# Altium schematic symbol library TranFet.SchLib: 15 symbols
Pins are listed as number, name and electrical type; pins without a type are passive.

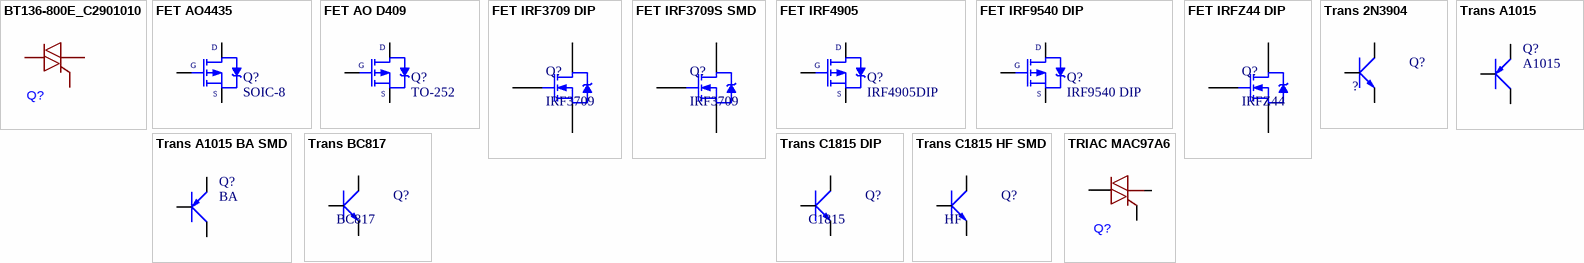
[diagram p0: symbols BT136-800E_C2901010 to TRIAC MAC97A6]

## BT136-800E_C2901010
designator Q?  (value not drawn)
footprint TO-252-3_L6.6-W6.1-P4.57-LS9.9-BR-CW
pins: 1 T1, 2 T2, 3 G

## FET AO4435
designator Q?, comment SOIC-8
P-Channel MOSFET 30V 8A; Note: Pin 2 is electrically connected to pin 4.; Published: 8-Jun-2000; LatestRevisionDate: 17-Jul-2002; LatestRevisionNote: Re-released for DXP Platform.; DatasheetVersion: PD-9.421C; PackageVersion: Feb-1997; PackageReference: TO-220AB; Publisher: Altium Limited; PackageDescription: TO, Thru-Hole, Vertical, Heatsink Mounted; 3 In-Line Leads; Pitch 2.54 mm; ComponentLink1Description: Manufacturer Link; ComponentLink1URL: http://www.irf.com/; ComponentLink2Description: Datasheet; ComponentLink2URL: http://www.irf.com/product-info/datasheets/data/irf9540.pdf
footprint AO4435 (SOIC)
pins: D, G, S

## FET AO D409
designator Q?, comment TO-252
P-Channel Power MOSFET; Note: Pin 2 is electrically connected to pin 4.; Published: 8-Jun-2000; LatestRevisionDate: 17-Jul-2002; LatestRevisionNote: Re-released for DXP Platform.; DatasheetVersion: PD-9.421C; PackageVersion: Feb-1997; PackageReference: TO-220AB; Publisher: Altium Limited; PackageDescription: TO, Thru-Hole, Vertical, Heatsink Mounted; 3 In-Line Leads; Pitch 2.54 mm; ComponentLink1Description: Manufacturer Link; ComponentLink1URL: http://www.irf.com/; ComponentLink2Description: Datasheet; ComponentLink2URL: http://www.irf.com/product-info/datasheets/data/irf9540.pdf
footprint TO-252-3_L6.6-W6.1-P4.57-LS9.9-BR-CW
pins: 1 G, 2 D, 3 S

## FET IRF3709 DIP
designator Q?, comment IRF3709
TO-200
footprint TO220 (TO-220)
pins: 1 G, 2 D, 3 S

## FET IRF3709S SMD
designator Q?, comment IRF3709
D2PAK
footprint D2PAK
pins: 1 G, 2 D, 3 S

## FET IRF4905
designator Q?, comment IRF4905DIP
TO-220AB P-Channel Mosfet; Note: Pin 2 is electrically connected to pin 4.; Published: 8-Jun-2000; LatestRevisionDate: 17-Jul-2002; LatestRevisionNote: Re-released for DXP Platform.; DatasheetVersion: PD-9.421C; PackageVersion: Feb-1997; PackageReference: TO-220AB; Publisher: Altium Limited; PackageDescription: TO, Thru-Hole, Vertical, Heatsink Mounted; 3 In-Line Leads; Pitch 2.54 mm; ComponentLink1Description: Manufacturer Link; ComponentLink1URL: http://www.irf.com/; ComponentLink2Description: Datasheet; ComponentLink2URL: http://www.irf.com/product-info/datasheets/data/irf9540.pdf
footprint TO220 (TO-220)
pins: 1 G, 2 D, 3 S

## FET IRF9540 DIP
designator Q?, comment IRF9540 DIP
TO-200; Note: Pin 2 is electrically connected to pin 4.; Published: 8-Jun-2000; LatestRevisionDate: 17-Jul-2002; LatestRevisionNote: Re-released for DXP Platform.; DatasheetVersion: PD-9.421C; PackageVersion: Feb-1997; PackageReference: TO-220AB; Publisher: Altium Limited; PackageDescription: TO, Thru-Hole, Vertical, Heatsink Mounted; 3 In-Line Leads; Pitch 2.54 mm; ComponentLink1Description: Manufacturer Link; ComponentLink1URL: http://www.irf.com/; ComponentLink2Description: Datasheet; ComponentLink2URL: http://www.irf.com/product-info/datasheets/data/irf9540.pdf
footprint TO220 (TO-220)
pins: 1 G, 2 D, 3 S

## FET IRFZ44 DIP
designator Q?, comment IRFZ44
TO-220
footprint TO220 (TO-220)
pins: 1 G, 2 D, 3 S

## Trans 2N3904
designator Q?, comment ?
NPN transistor EBC; Value: C9014
footprint TO92 (TO-92)
pins: 1 E, 2 B, 3 C

## Trans A1015
designator Q?, comment A1015
PNP 600mW, ECB; Value: A1015
footprint TO92 (TO-92)
pins: 1 E, 2 C, 3 B

## Trans A1015 BA SMD
designator Q?, comment BA
PNP 600mW, ECB
footprint SOT23
pins: 1 B, 2 E, 3 C

## Trans BC817
designator Q?, comment BC817
SOT-23 - C8658; Value: C9014
footprint SOT-23 (Footprint not found)
pins: 1 B, 2 E, 3 C

## Trans C1815 DIP
designator Q?, comment C1815
NPN transistor; Value: C9014
footprint TO92 (TO-92)
pins: 1 E, 2 C, 3 B

## Trans C1815 HF SMD
designator Q?, comment HF
SOT-23; Value: C9014
footprint SOT-23 (Footprint not found)
pins: 1 B, 2 E, 3 C

## TRIAC MAC97A6
designator Q?, comment MAC97A6  (value not drawn)
MAC97A6 TO-92 400V - 8A
footprint TO92 - MAC97A6 (TO-92)
pins: G, T1, T2